# Altium schematic symbol library RF Filter.SchLib: 1 symbol
Pins are listed as number, name and electrical type; pins without a type are passive.

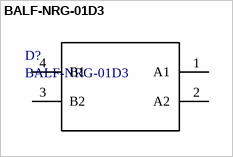
[diagram p0: symbol BALF-NRG-01D3]

## BALF-NRG-01D3
designator D?
footprint BALF-NRG-BGA (BGA, 4-Leads, Body 1,40x0,85mmx0,63mm, Pitch 0,40mm)
pins: 1 A1, 2 A2, 3 B2, 4 B1